# Altium footprint library BMS.PcbLib: 20 footprints (part 1 of 2)
Each footprint in its own frame and in the unit in brackets; x right, y up, seen from the top. Pads: shape width x height; smd on the part's side, far side on the other; paste and mask are expansions set on the pad; w line width, h text height; cw(c..) or ccw(c..) is an arc to the next point about the centre after c.
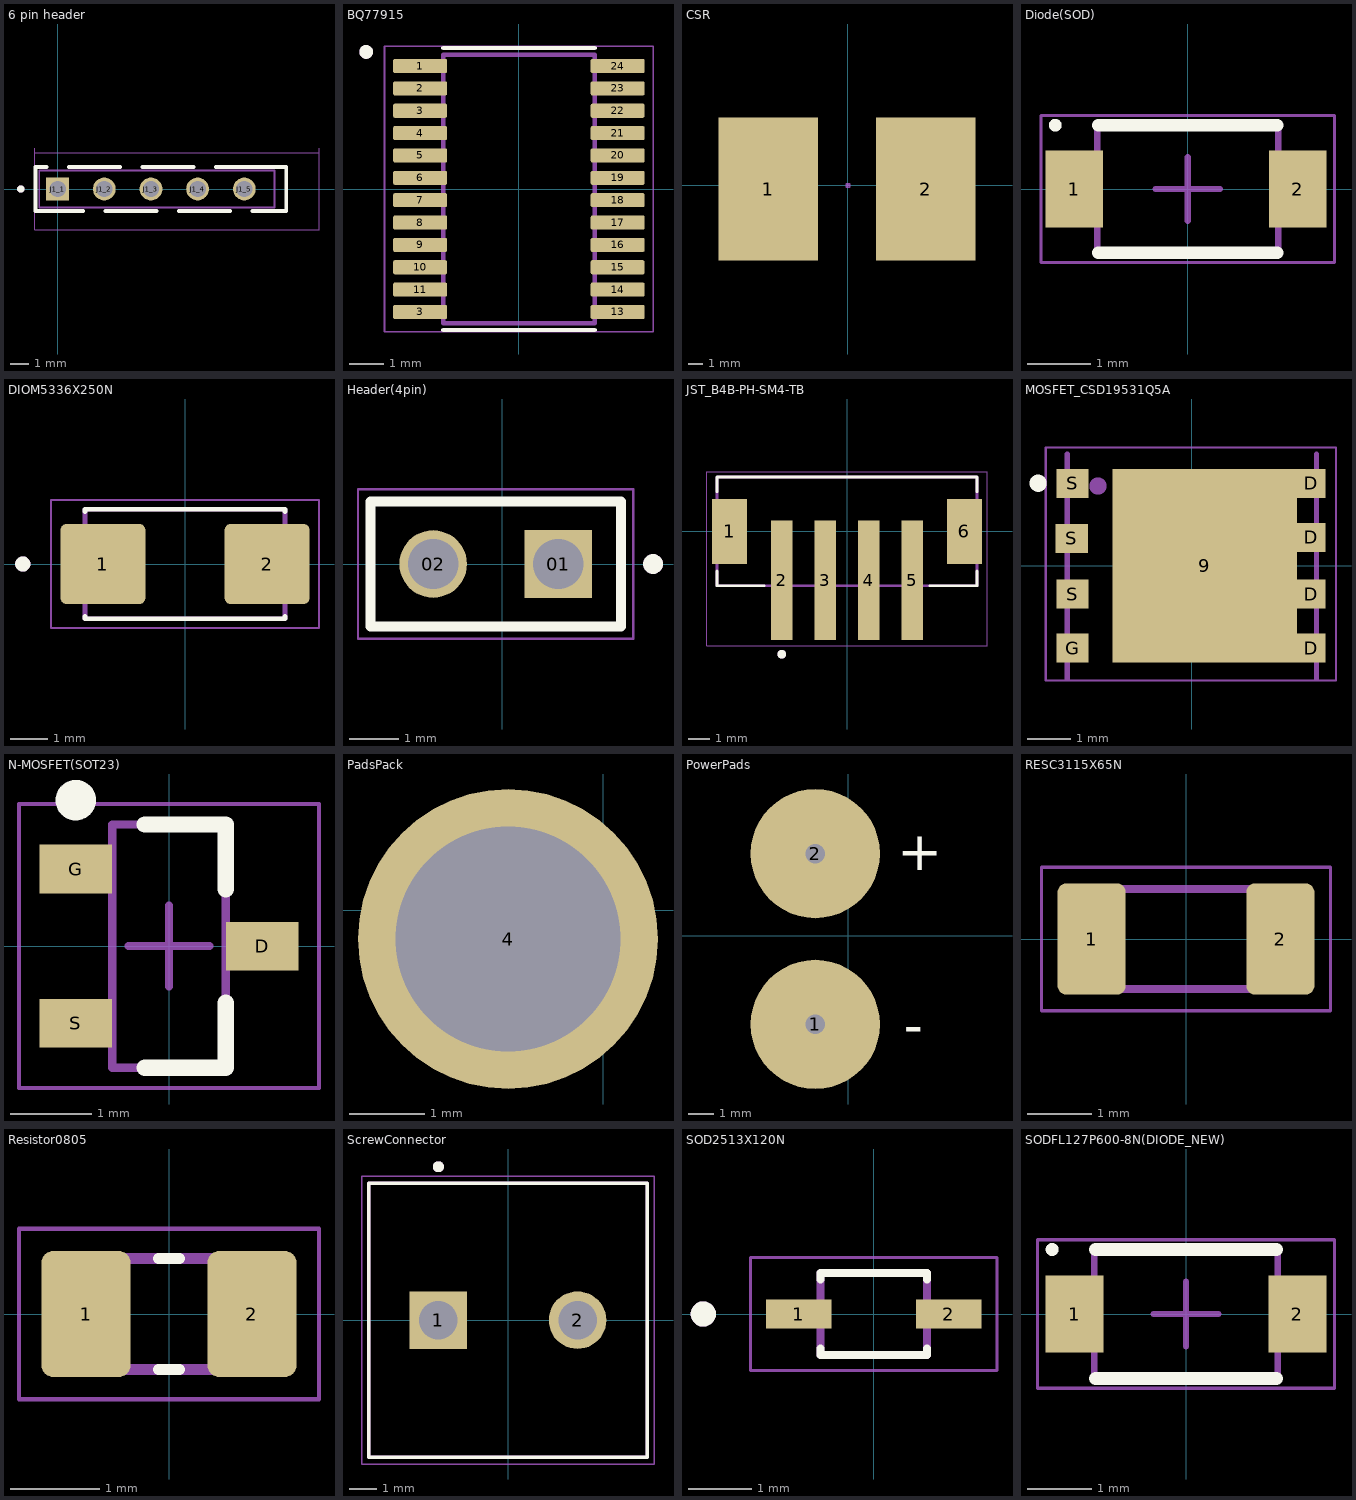
[diagram p0: the footprints below, top view; thin cyan lines are the x and y axes]

## 6 pin header [mm]
pads (5):
  rect 1.24x1.24 hole 0.89: J1_1(0,0)
  round 1.24 hole 0.89: J1_2(2.54,0) J1_3(5.08,0) J1_4(7.62,0) J1_5(10.16,0)
Top Overlay:
  circle w0.2: c-2,0 r0.1
  lines w0.2: -0.605,1.2 -1.2,1.2 -1.2,-1.2 1.395,-1.2 0.605,-1.2 ; 0.605,1.2 3.395,1.2 2.605,1.2 ; 2.605,-1.2 5.395,-1.2 4.605,-1.2 ; 4.605,1.2 7.395,1.2 6.605,1.2 ; 6.605,-1.2 9.395,-1.2 ; 8.605,-1.2 9.2,-1.2 ; 8.605,1.2 12.446,1.2 12.446,-1.2 10.605,-1.2 ; 10.605,1.2 11.2,1.2
Mechanical 13:
  circle w0.2: c-2,0 r0.1
  lines w0.1: 11.811,-1.016 11.811,1.016 ; 11.811,-1 -1,-1 -1,1 11.811,1
Mechanical 15:
  lines w0.05: -1.25,1.966 14.224,1.966 ; -1.25,2.22 -1.25,-2.22 14.224,-2.22 14.224,2.22
3D body "B5B-XH-A--3DModel-STEP-56544.STEP": height 6.51, standoff -3.89, extent -2.37,-2.346 12.53,3.404

## BQ77915 [mm]
height 1.2
pads (24):
  rrect25% 1.57x0.41 smd: 1(-2.87,3.575) 2(-2.87,2.925) 3(-2.87,-3.575) 3(-2.87,2.275) 4(-2.87,1.625) 5(-2.87,0.975) 6(-2.87,0.325) 7(-2.87,-0.325) 8(-2.87,-0.975) 9(-2.87,-1.625) 10(-2.87,-2.275) 11(-2.87,-2.925) 13(2.87,-3.575) 14(2.87,-2.925) 15(2.87,-2.275) 16(2.87,-1.625) 17(2.87,-0.975) 18(2.87,-0.325) 19(2.87,0.325) 20(2.87,0.975) 21(2.87,1.625) 22(2.87,2.275) 23(2.87,2.925) 24(2.87,3.575)
Top Overlay:
  circle w0.2: c-4.44,3.985 r0.1
  lines w0.127: -2.2,-4.1 2.2,-4.1 ; -2.2,4.1 2.2,4.1
Mechanical 13:
  circle w0.2: c-4.44,3.985 r0.1
  lines w0.127: -2.2,-3.9 2.2,-3.9 2.2,3.9 -2.2,3.9 -2.2,-3.9
Mechanical 15:
  lines w0.05: -3.905,-4.15 3.905,-4.15 3.905,4.15 -3.905,4.15 -3.905,-4.15
3D body "step_temp.STEP": height 1.2, standoff 0, extent -3.2,-3.9 3.2,3.9

## CSR [mm]
height 0.5
pads (2):
  rect 7x10 smd: 1(-5.588,-0.254) 2(5.461,-0.254)
Top Courtyard:
  lines w0.1: -0.125,0 0.125,0 ; 0,-0.125 0,0.125
Top Assembly:
  lines w0.1: -0.125,-0.125 0.125,-0.125 0.125,0.125 -0.125,0.125 -0.125,-0.125
3D body: height 0.5, standoff 0, extent -4.005,-0.125 0.125,0.125
3D body: height 0.5, standoff 0, extent -0.125,-0.125 4.005,0.125
3D body: height 0.5, standoff 0, extent -4.005,-0.125 4.005,0.125
3D body "RES_PU5931__2mOHM_YAG.step": height 1.45, standoff 0, extent -7.747,-4 7.493,4

## Diode(SOD) [mm]
height 1.1
pads (2):
  rect 0.9x1.2 smd: 1(-1.778,0) 2(1.725,0)
Top Overlay:
  circle w0.1: c-2.075,1 r0.05
  lines w0.2: -1.4,-1 1.4,-1 ; -1.4,1 1.4,1
Mechanical 13:
  lines w0.1: -1.42,-1 -1.42,1 1.42,1 1.42,-1 -1.42,-1
Mechanical 15:
  lines w0.05: -2.3,-1.15 -2.3,1.15 2.3,1.15 2.3,-1.15 -2.3,-1.15
  lines w0.1: -0.5,0 0.5,0 ; 0,-0.5 0,0.5
3D body "1N4007FLTR(Diode).STEP": height 1.11, standoff 0.01, extent -1.778,-0.9 1.822,0.9

## DIOM5336X250N [mm]
height 2.5
pads (2):
  rrect15% 2.25x2.13 smd: 1(-2.175,0) 2(2.175,0)
Top Overlay:
  circle w0.2: c-4.3,0 r0.1
  lines w0.127: -2.65,-1.385 -2.65,-1.45 2.65,-1.45 2.65,-1.385 ; -2.65,1.385 -2.65,1.45 2.65,1.45 2.65,1.385
Mechanical 13:
  circle w0.2: c-4.3,0 r0.1
  lines w0.127: -2.65,-1.45 -2.65,1.45 2.65,1.45 2.65,-1.45 -2.65,-1.45
Mechanical 15:
  lines w0.05: -3.55,-1.7 -3.55,1.7 3.55,1.7 3.55,-1.7 -3.55,-1.7
3D body "step_temp.STEP": height 2.5, standoff 0, extent -2.648,-1.81 2.648,1.81

## Header(4pin) [mm]
pads (2):
  rect 1.37x1.37 / inner round 1.37 / far side rect 1.37x1.37 hole 1.02: 01(1.143,0)
  round 1.37 hole 1.02: 02(-1.397,0)
Top Overlay:
  circle w0.2: c3.063,0 r0.1
  lines w0.2: -2.667,-1.27 2.413,-1.27 2.413,1.27 -2.667,1.27 -2.667,-1.27
Mechanical 13:
  circle w0.2: c3.063,0 r0.1
  lines w0.1: -2.667,1.27 2.413,1.27 ; -2.667,1.27 2.413,1.27 ; -2.667,1.27 -2.667,-1.27 2.413,-1.27 ; 2.413,-1.27 2.413,1.27 ; 2.413,-1.27 2.413,1.27
Mechanical 15:
  lines w0.05: -2.921,-1.52 2.663,-1.52 2.663,1.52 -2.921,1.52 -2.921,-1.52
3D body "HMTSW-102-08-G-S-365.stp": height 11.32, standoff -2.15, extent -2.667,-1.346 2.413,1.143

## JST_B4B-PH-SM4-TB [mm]
height 6.6
pads (6):
  rect 1.6x3 smd: 1(-5.4,0) 6(5.4,0)
  rect 1x5.5 smd: 2(-3,-2.25) 3(-1,-2.25) 4(1,-2.25) 5(3,-2.25)
Top Overlay:
  circle w0.2: c-3,-5.65 r0.1
  lines w0.127: -5.975,-1.82 -5.975,-2.5 -3.82,-2.5 ; -5.975,1.82 -5.975,2.5 5.975,2.5 5.975,1.82 ; 3.82,-2.5 5.975,-2.5 5.975,-1.82
Mechanical 13:
  circle w0.2: c-3,-5.65 r0.1
  lines w0.127: -5.975,-2.5 -5.975,2.5 5.975,2.5 5.975,-2.5 -5.975,-2.5
Mechanical 15:
  lines w0.05: -6.45,-5.25 6.45,-5.25 6.45,2.75 -6.45,2.75 -6.45,-5.25
3D body "B4B-PH-SM4-TB--3DModel-STEP-510211.STEP": height 6.61, standoff -0.14, extent -5.975,-4.572 5.975,2.428

## MOSFET_CSD19531Q5A [mm]
pads (9):
  rect 4.295x4.51 smd paste-3: 9(0.301,0)
  rect 0.655x0.675 smd paste-1: D(2.776,-1.917) D(2.776,-0.66) D(2.776,0.66) D(2.776,1.917)
  rect 0.75x0.675 smd paste-1: G(-2.776,-1.917) S(-2.794,0.635) S(-2.776,-0.66) S(-2.776,1.917)
Top Overlay:
  circle w0.3: c-3.578,1.921 r0.05
Top Paste:
  region: -0.174,0.31 -1.409,0.31 -1.409,1.88 -0.174,1.88
  region: 1.911,0.31 0.327,0.31 0.327,1.88 1.911,1.88
  region: -0.174,-1.883 -1.411,-1.883 -1.411,-0.31 -0.174,-0.31
  region: 1.911,-1.882 0.327,-1.882 0.327,-0.31 1.911,-0.31
  region: 3.026,1.668 2.527,1.668 2.527,2.167 3.026,2.167
  region: 3.026,0.41 2.528,0.41 2.528,0.91 3.026,0.91
  region: 3.026,-0.91 2.528,-0.91 2.528,-0.41 3.026,-0.41
  region: 3.026,-2.172 2.531,-2.172 2.531,-1.667 3.026,-1.667
  region: -2.526,1.67 -3.03,1.67 -3.03,2.167 -2.526,2.167
  region: -2.526,0.41 -3.027,0.41 -3.027,0.91 -2.526,0.91
  region: -2.526,-0.91 -3.026,-0.91 -3.026,-0.41 -2.526,-0.41
  region: -2.526,-2.171 -3.031,-2.171 -3.031,-1.667 -2.526,-1.667
Mechanical 13:
  circle w0.3: c-2.186,1.855 r0.05
  lines w0.127: -2.9,-2.616 -2.9,2.591 ; 2.9,-2.616 2.9,2.591
Mechanical 15:
  lines w0.05: -3.401,-2.667 -3.401,2.75 3.354,2.75 3.354,-2.667 -3.401,-2.667
3D body "CSD17310Q5A.STEP": height 1.11, standoff 0.01, extent -3,-2.36 3,2.54

## N-MOSFET(SOT23) [mm]
height 1.1
pads (3):
  rect 0.9x0.6 smd: D(1.15,0) G(-1.15,0.95) S(-1.15,-0.95)
Top Overlay:
  circle w0.25: c-1.15,1.8 r0.125
  lines w0.2: -0.3,-1.5 0.7,-1.5 0.7,-0.7 ; -0.3,1.5 0.7,1.5 0.7,0.7
Mechanical 13:
  lines w0.1: -0.7,-1.5 0.7,-1.5 0.7,1.5 -0.7,1.5 -0.7,-1.5
Mechanical 15:
  lines w0.05: -1.85,-1.75 1.85,-1.75 1.85,1.75 -1.85,1.75 -1.85,-1.75
  lines w0.1: -0.5,0 0.5,0 ; 0,-0.5 0,0.5
3D body "2N7002BK_215.step": height 1.01, standoff -0.09, extent -1.15,-1.45 1.15,1.45

## PadsPack [mm]
pads (1):
  round 4 hole 3: 4(-1.27,-0.381)

## PowerPads [mm]
pads (2):
  round 5 hole 0.762: 1(-1.27,-3.429) 2(-1.27,3.175)
Top Overlay:
  text "+" at 1.905,2.54 h1.52
  text "-" at 2.159,-4.191 h1.52

## RESC3115X65N [mm]
height 0.65
pads (2):
  rrect25% 1.05x1.72 smd: 1(-1.46,0) 2(1.46,0)
Mechanical 13:
  lines w0.127: -1.55,-0.775 -1.55,0.775 1.55,0.775 1.55,-0.775 -1.55,-0.775
Mechanical 15:
  lines w0.05: -2.235,-1.11 2.235,-1.11 2.235,1.11 -2.235,1.11 -2.235,-1.11
3D body "step_temp.STEP": height 1, standoff 0, extent -1.6,-0.666 1.6,0.92

## Resistor0805 [mm]
pads (2):
  rrect25% 1x1.42 smd: 1(-0.935,0) 2(0.935,0)
Top Overlay:
  lines w0.127: -0.115,-0.625 0.115,-0.625 ; -0.115,0.625 0.115,0.625
Mechanical 13:
  lines w0.127: -1,-0.625 1,-0.625 1,0.625 -1,0.625 -1,-0.625
Mechanical 15:
  lines w0.05: -1.69,-0.96 1.69,-0.96 1.69,0.96 -1.69,0.96 -1.69,-0.96
3D body "step_temp.STEP": height 0.65, standoff 0, extent -1,-0.625 1,0.625

## ScrewConnector [mm]
pads (2):
  rect 2.1x2.1 / inner round 2.1 / far side rect 2.1x2.1 hole 1.4: 1(-2.54,0)
  round 2.1 hole 1.4: 2(2.54,0)
Top Overlay:
  circle w0.2: c-2.54,5.6 r0.1
  lines w0.127: -5.08,-5 -5.08,5 5.08,5 5.08,-5 -5.08,-5
Mechanical 13:
  circle w0.2: c-2.54,5.6 r0.1
  lines w0.127: -5.08,-5 -5.08,5 5.08,5 5.08,-5 -5.08,-5
Mechanical 15:
  lines w0.05: -5.33,-5.25 -5.33,5.25 5.33,5.25 5.33,-5.25 -5.33,-5.25
3D body "691137710002+%28rev1%29.stp": height 11.51, standoff -3.58, extent -5.08,-3.623 4.92,3.877

## SOD2513X120N [mm]
pads (2):
  rect 1.04x0.46 smd: 1(-1.19,0) 2(1.19,0)
Top Overlay:
  circle w0.2: c-2.71,0 r0.1
  lines w0.127: -0.85,-0.55 -0.85,-0.65 0.85,-0.65 0.85,-0.55 ; -0.85,0.55 -0.85,0.65 0.85,0.65 0.85,0.55
Mechanical 13:
  circle w0.2: c-2.71,0 r0.1
  lines w0.127: -0.85,-0.65 0.85,-0.65 0.85,0.65 -0.85,0.65 -0.85,-0.65
Mechanical 15:
  lines w0.05: -1.96,-0.9 -1.96,0.9 1.96,0.9 1.96,-0.9 -1.96,-0.9
3D body "step_temp.STEP": height 1, standoff 0, extent -1.312,-0.65 1.312,0.65

## SODFL127P600-8N(DIODE_NEW) [mm]
height 1.1
pads (2):
  rect 0.9x1.2 smd: 1(-1.725,0) 2(1.725,0)
Top Overlay:
  circle w0.1: c-2.075,1 r0.05
  lines w0.2: -1.4,-1 1.4,-1 ; -1.4,1 1.4,1
Top Courtyard:
  lines w0.05: -2.3,-1.15 -2.3,1.15 2.3,1.15 2.3,-1.15 -2.3,-1.15
  lines w0.1: -0.5,0 0.5,0 ; 0,-0.5 0,0.5
Top Assembly:
  lines w0.1: -1.42,-1 -1.42,1 1.42,1 1.42,-1 -1.42,-1
3D body "1N4007FLTR(Diode).STEP": height 1.11, standoff 0.01, extent -1.8,-0.9 1.8,0.9